# EAGLE library part WH1602A (library winstar)
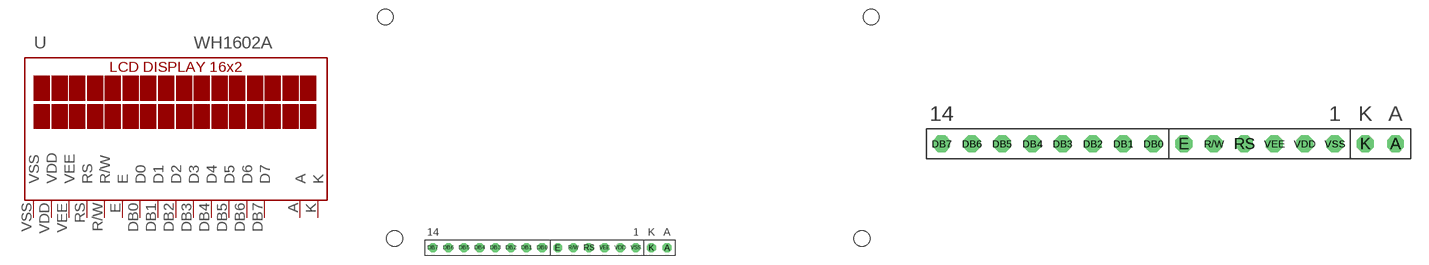
[diagram p0: symbol with the pads of WH1602A-PAD; footprints WH1602A-PAD, WH1602A-HEADER-INLINE]

Designator prefix U

## WH1602A/PAD  [WH1602A-PAD]
A  A  pas
DB0  D0  in
DB1  D1  in
DB2  D2  in
DB3  D3  in
DB4  D4  in
DB5  D5  in
DB6  D6  in
DB7  D7  in
E  E  in
K  K  pas
R/W  R/W  in
RS  RS  in
VDD  VDD  pwr
VEE  VEE  pwr
VSS  VSS  pwr

## WH1602A/HEADER-INLINE  [WH1602A-HEADER-INLINE]
Pads as for WH1602A-PAD

## Footprint WH1602A-PAD (pad centres in mm)
drill 0.813 pad 1.422 octagon: A 38.1,0; DB0 17.78,0; DB1 15.24,0; DB2 12.7,0; DB3 10.16,0; DB4 7.62,0; DB5 5.08,0; DB6 2.54,0; DB7 0,0; E 20.32,0; K 35.56,0; R/W 22.86,0; RS 25.4,0; VDD 30.48,0; VEE 27.94,0; VSS 33.02,0
hole 2.54 at -7.7,37.5
hole 2.54 at 71.3,37.5
hole 2.54 at 69.8,1.5
hole 2.54 at -6.2,1.5

## Footprint WH1602A-HEADER-INLINE (pad centres in mm)
drill 0.813 pad 1.422 octagon: A 38.1,0; DB0 17.78,0; DB1 15.24,0; DB2 12.7,0; DB3 10.16,0; DB4 7.62,0; DB5 5.08,0; DB6 2.54,0; DB7 0,0; E 20.32,0; K 35.56,0; R/W 22.86,0; RS 25.4,0; VDD 30.48,0; VEE 27.94,0; VSS 33.02,0